# Altium schematic symbol library Schematic Lib.SchLib: 28 symbols
Pins are listed as number, name and electrical type; pins without a type are passive.

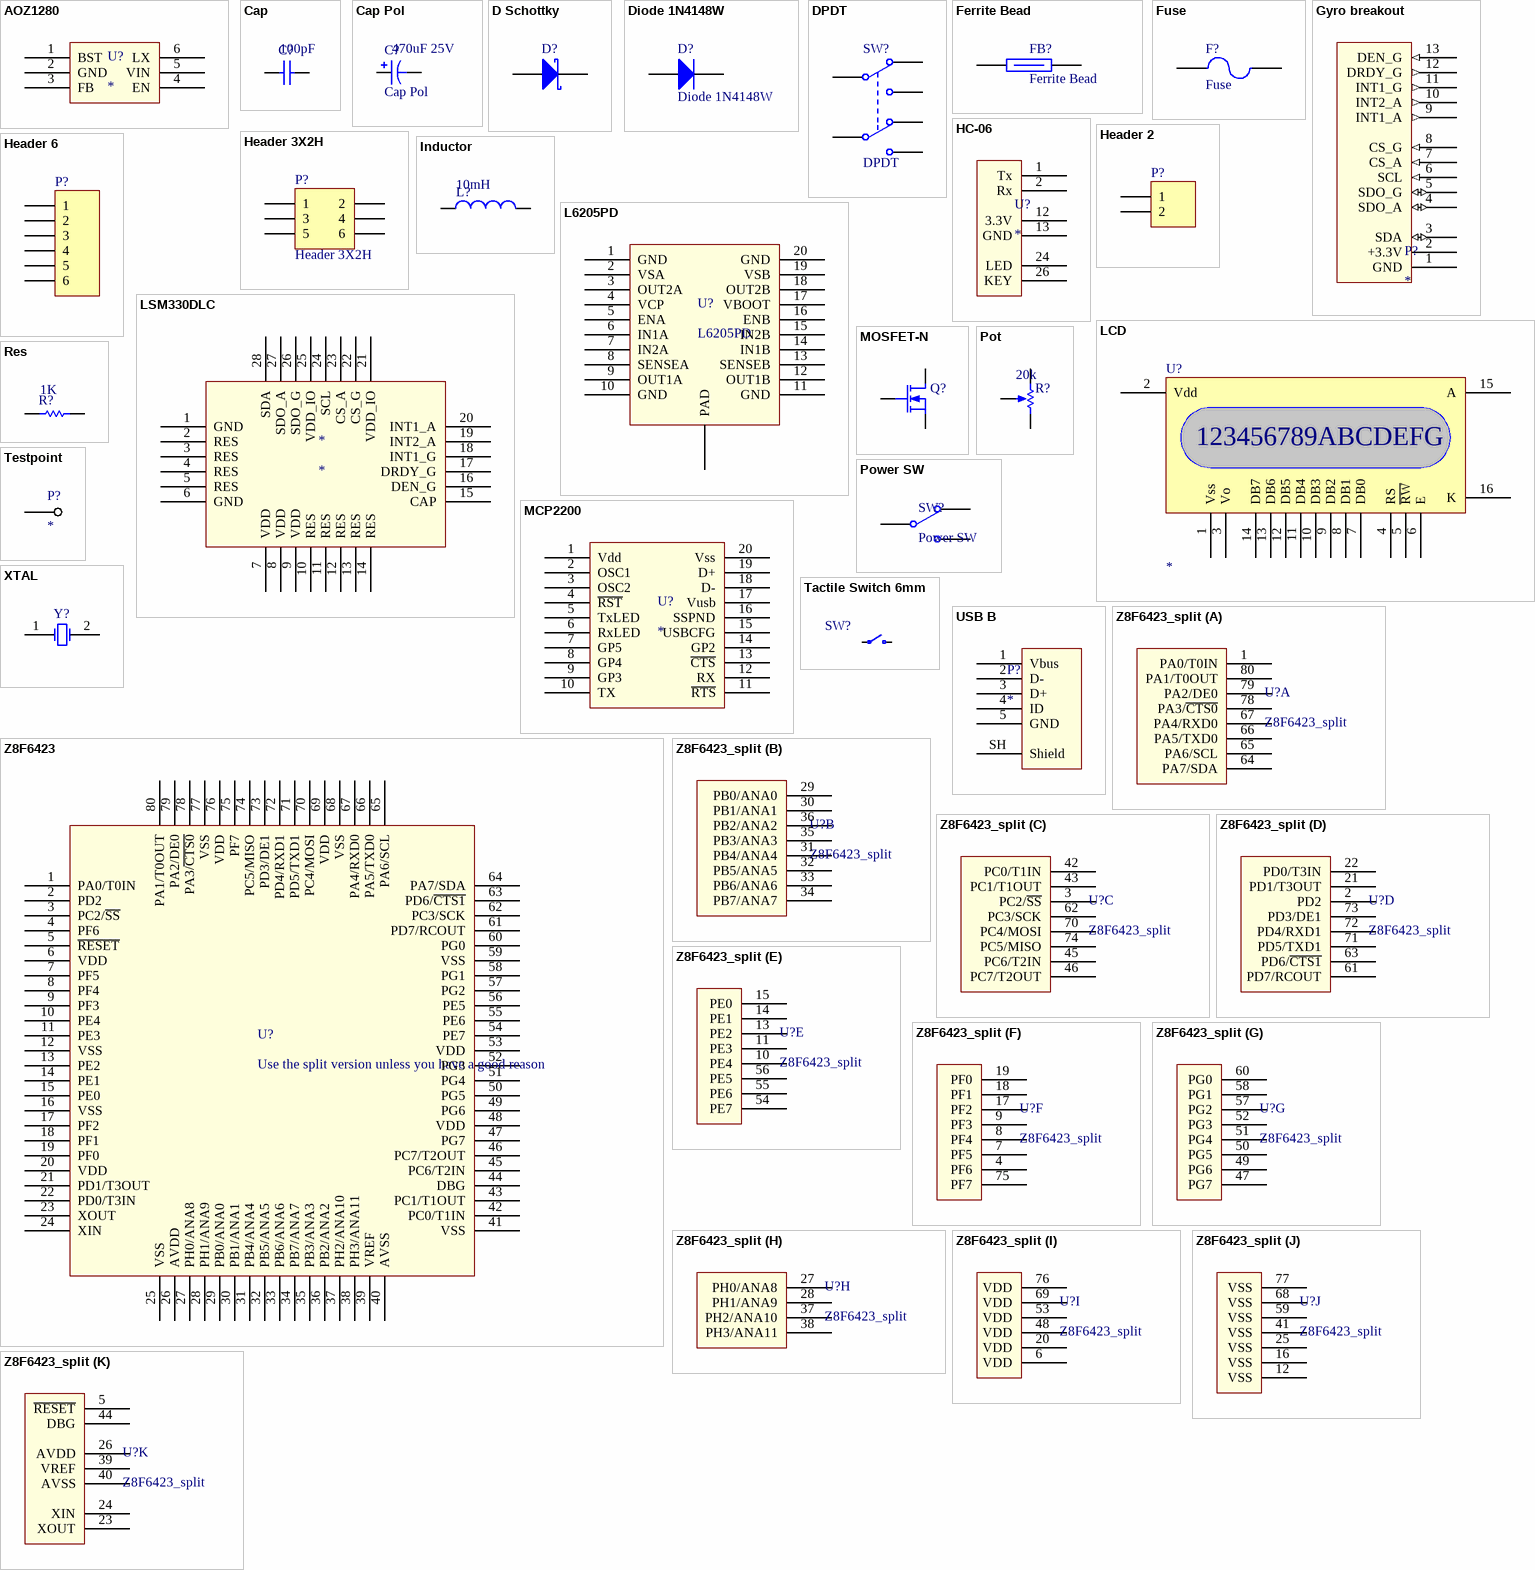
[diagram p0: symbols AOZ1280 to Z8F6423_split]

## AOZ1280
designator U?
footprint SOT23-6 (SOT23, 6-Leads, Body 2.9x1.6mm, Pitch 0.95mm, Lead Span 2.8mm, Ample)
pins: 1 BST, 2 GND, 3 FB, 4 EN, 5 VIN, 6 LX

## Cap
designator C?  value 100pF  (hidden comment: Cap)
Capacitor; Published: 8-Jun-2000; LatestRevisionDate: 17-Jul-2002; LatestRevisionNote: Re-released for DXP Platform.; PackageReference: RAD-0.3; Publisher: Altium Limited; PackageDescription: Radial Cap, Thru-Hole; 2 Leads; 0.3 in Pin Spacing
footprint CAPC2012L-3D (Chip Capacitor, Body 2.0x1.3mm, IPC High Density)
footprint CAP3216 (Chip Capacitor, Body 3.2x1.6mm, IPC High Density)
pins: 1, 2

## Cap Pol
designator C?  value 470uF 25V
Polarized Capacitor (Axial); Published: 8-Jun-2000; LatestRevisionDate: 17-Jul-2002; LatestRevisionNote: Re-released for DXP Platform.; PackageReference: POLAR0.8; Publisher: Altium Limited; PackageDescription: Polarized Capacitor; 2 Leads
footprint Capacitor Nichi CL 10x10
pins: 1, 2
1 alternate drawing of the same symbol

## D Schottky
designator D?
Schottky Diode; Published: 8-Jun-2000; LatestRevisionDate: 17-Jul-2002; LatestRevisionNote: Re-released for DXP Platform.; PackageReference: SMB; Publisher: Altium Limited; PackageDescription: DO-214-AA/SMB; 2 C-Bend Leads; Body 5.3 x 3.6 mm, inc. leads (LxW); Code_JEDEC: DO-214-AA
footprint DO-214-AA (DO-214-AA/SMB; 2 C-Bend Leads; Body 5.3 x 3.6 mm, inc. leads (LxW))
pins: 1 A, 2 K

## Diode 1N4148W
designator D?
Published: 8-Jun-2000; LatestRevisionDate: 17-Jul-2002; LatestRevisionNote: Re-released for DXP Platform.; DatasheetVersion: 1997; PackageReference: DO-35; Publisher: Altium Limited; PackageDescription: Diode, Axial; Body 3.8 x 1.9 mm (LxDia. max), Lead Dia. 0.53 mm (max); Code_JEDEC: DO-204-AH; ComponentLink1Description: Manufacturer Link; ComponentLink1URL: http://www.fairchildsemi.com/; ComponentLink2Description: Datasheet; ComponentLink2URL: http://www.fairchildsemi.com/ds/1N%2F1N4148.pdf
footprint SOD-123 (ON-Semi)
pins: 1 A, 2 K

## DPDT
designator SW?
Switch; Published: 24-Mar-1999; LatestRevisionDate: 29-May-2009; LatestRevisionNote: IPC-7351 Footprint Added.; PackageVersion: Mar-2001; PackageReference: SOT23-6; Publisher: Altium Limited; PackageDescription: 6-Pin SOT-23 Package 0.95 mm Pitch, 2.7 mm Lead Span; Code_JEITA: SC-74; Code_IPC: SOT26A-6
footprint MCLSS22 (DPDT small)
pins: 1 NC1, 2 COMMON1, 3 NO1, 4 NC2, 5 COMMON2, 6 NO2

## Ferrite Bead
designator FB?
footprint 0603
pins: 1, 2

## Fuse
designator F?
Published: 8-Jun-2000; LatestRevisionDate: 17-Jul-2002; LatestRevisionNote: Re-released for DXP Platform.; PackageReference: PIN-W2/E2.8; Publisher: Altium Limited; PackageDescription: Thru-Hole; 2 Leads
footprint Fuse Holder
pins: 1, 2

## Gyro breakout
designator P?
LSM330DLC breakout board
footprint Gyro breakout
pins: 1 GND, 2 +3.3V, 3 SDA (io), 4 SDO_A (io), 5 SDO_G (io), 6 SCL (in), 7 CS_A (in), 8 CS_G (in), 9 INT1_A (out), 10 INT2_A (out), 11 INT1_G (out), 12 DRDY_G (out), 13 DEN_G (in)

## HC-06
designator U?
footprint HC-06
pins: 1 Tx, 2 Rx, 12 3.3V, 13 GND, 24 LED, 26 KEY

## Header 2
designator P?
Header, 2-Pin; LatestRevisionDate: 17-Jul-2002; LatestRevisionNote: Re-released for DXP Platform.; Publisher: Altium Limited
footprint HDR1X2 (Connector; Header; 2 Position)
pins: 1, 2

## Header 3X2H
designator P?
Header, 3-Pin, Dual row, Right Angle; LatestRevisionDate: 17-Jul-2002; LatestRevisionNote: Re-released for DXP Platform.; Publisher: Altium Limited
footprint HDR2X3Hmod (Connector; Header; 3x2 Position; Right Angle)
signal-integrity model Connector
pins: 1, 2, 3, 4, 5, 6

## Header 6
designator P?
Header, 6-Pin; LatestRevisionDate: 17-Jul-2002; LatestRevisionNote: Re-released for DXP Platform.; Publisher: Altium Limited
footprint HDR1X6 (Connector; Header; 6 Position)
pins: 1, 2, 3, 4, 5, 6

## Inductor
designator L?  value 10mH
Inductor; Code_IEC: 1005; Published: 8-Jun-2000; LatestRevisionDate: 29-May-2009; LatestRevisionNote: IPC-7351 Footprint Added.; PackageReference: 0402-A; Publisher: Altium Limited; PackageDescription: Chip Inductor; Code_JEITA: 0402
footprint Inductor 5020
pins: 1, 2

## L6205PD
designator U?
footprint PowerSO20 (STMicro PowerSO20)
pins: 1 GND, 2 VSA, 3 OUT2A, 4 VCP, 5 ENA, 6 IN1A, 7 IN2A, 8 SENSEA, 9 OUT1A, 10 GND, 11 GND, 12 OUT1B, 13 SENSEB, 14 IN1B, 15 IN2B, 16 ENB, 17 VBOOT, 18 OUT2B, 19 VSB, 20 GND, PAD

## LCD
designator U?
footprint LCD
pins: 1 Vss, 2 Vdd, 3 Vo, 4 RS, 5 ~{RW}, 6 E, 7 DB0, 8 DB1, 9 DB2, 10 DB3, 11 DB4, 12 DB5, 13 DB6, 14 DB7, 15 A, 16 K
text: 123456789ABCDEFG

## LSM330DLC
designator *
footprint LGA-28-4x5x1.1
pins: 1 GND, 2 RES, 3 RES, 4 RES, 5 RES, 6 GND, 7 VDD, 8 VDD, 9 VDD, 10 RES, 11 RES, 12 RES, 13 RES, 14 RES, 15 CAP, 16 DEN_G, 17 DRDY_G, 18 INT1_G, 19 INT2_A, 20 INT1_A, 21 VDD_IO, 22 CS_G, 23 CS_A, 24 SCL, 25 VDD_IO, 26 SDO_G, 27 SDO_A, 28 SDA

## MCP2200
designator U?
footprint SSOP-SS20_N (SOP, 20-Leads, Body 7.2x5.2mm, Pitch 0.65mm, IPC Medium Density)
pins: 1 Vdd, 2 OSC1, 3 OSC2, 4 ~{RST}, 5 TxLED, 6 RxLED, 7 GP5, 8 GP4, 9 GP3, 10 TX, 11 ~{RTS}, 12 RX, 13 ~{CTS}, 14 GP2, 15 USBCFG, 16 SSPND, 17 Vusb, 18 D-, 19 D+, 20 Vss

## MOSFET-N
designator Q?
N-Channel MOSFET; Published: 8-Jun-2000; LatestRevisionDate: 17-Jul-2002; LatestRevisionNote: Re-released for DXP Platform.; PackageVersion: 1995/1996; PackageReference: E3; Publisher: Altium Limited; PackageDescription: TO, Flat Index; 3 In-Line, Axial Leads; Body Dia. 4.6mm; Lead Dia. 0.5 mm (max)
footprint SOT23
pins: 1 G, 2 S, 3 D

## Pot
designator R?  value 20k
Potentiometer
footprint POT
pins: 1 TOP, 2 BOT, 3 TAP
1 alternate drawing of the same symbol

## Power SW
designator SW?
footprint Power SW
pins: 1 NC1, 2 COMMON1, 3 NO1

## Res
designator R?  value 1K
Resistor 0805; Published: 8-Jun-2000; LatestRevisionDate: 17-Jul-2002; LatestRevisionNote: Re-released for DXP Platform.; PackageReference: AXIAL-0.3; Publisher: Altium Limited; PackageDescription: Axial Device, Thru-Hole; 2 Leads; 0.3 in Pin Spacing
footprint RESC2012N-3D (Chip Resistor, Body 2.0x1.3mm)
pins: 1, 2

## Tactile Switch 6mm
designator SW?  (value not drawn)
footprint Switch 6mm (Switch 6mm, TH)
pins: 1, 2

## Testpoint
designator P?
footprint Testpoint
pins: 1

## USB B
designator P?
footprint USB B
pins: 1 Vbus, 2 D-, 3 D+, 4 ID, 5 GND, SH Shield

## XTAL
designator Y?
Crystal Oscillator; Published: 8-Jun-2000; LatestRevisionDate: 17-Jul-2002; LatestRevisionNote: Re-released for DXP Platform.; PackageReference: R38; Publisher: Altium Limited; PackageDescription: Crystal, Thru-Hole; 2 Leads; Body 3.1 x 8.2 mm (Dia.xH)
footprint HC49US
pins: 1 OSC1, 2 OSC2

## Z8F6423
designator U?, comment Use the split version unless you have a good reason
footprint RQFP80_N (80-Pin Quad Flat Pack Rectangular 0.8 mm Pitch, IPC Medium Density)
pins: 1 PA0/T0IN, 2 PD2, 3 PC2/~{SS}, 4 PF6, 5 ~{RESET}, 6 VDD, 7 PF5, 8 PF4, 9 PF3, 10 PE4, 11 PE3, 12 VSS, 13 PE2, 14 PE1, 15 PE0, 16 VSS, 17 PF2, 18 PF1, 19 PF0, 20 VDD, 21 PD1/T3OUT, 22 PD0/T3IN, 23 XOUT, 24 XIN, 25 VSS, 26 AVDD, 27 PH0/ANA8, 28 PH1/ANA9, 29 PB0/ANA0, 30 PB1/ANA1, 31 PB4/ANA4, 32 PB5/ANA5, 33 PB6/ANA6, 34 PB7/ANA7, 35 PB3/ANA3, 36 PB2/ANA2, 37 PH2/ANA10, 38 PH3/ANA11, 39 VREF, 40 AVSS, 41 VSS, 42 PC0/T1IN, 43 PC1/T1OUT, 44 DBG, 45 PC6/T2IN, 46 PC7/T2OUT, 47 PG7, 48 VDD, 49 PG6, 50 PG5, 51 PG4, 52 PG3, 53 VDD, 54 PE7, 55 PE6, 56 PE5, 57 PG2, 58 PG1, 59 VSS, 60 PG0, 61 PD7/RCOUT, 62 PC3/SCK, 63 PD6/~{CTS1}, 64 PA7/SDA, 65 PA6/SCL, 66 PA5/TXD0, 67 PA4/RXD0, 68 VSS, 69 VDD, 70 PC4/MOSI, 71 PD5/TXD1, 72 PD4/RXD1, 73 PD3/DE1, 74 PC5/MISO, 75 PF7, 76 VDD, 77 VSS, 78 PA3/~{CTS0}, 79 PA2/DE0, 80 PA1/T0OUT

## Z8F6423_split
designator U?
footprint RQFP80_N (80-Pin Quad Flat Pack Rectangular 0.8 mm Pitch, IPC Medium Density)
part A pins: 1 PA0/T0IN, 64 PA7/SDA, 65 PA6/SCL, 66 PA5/TXD0, 67 PA4/RXD0, 78 PA3/~{CTS0}, 79 PA2/DE0, 80 PA1/T0OUT
part B pins: 29 PB0/ANA0, 30 PB1/ANA1, 31 PB4/ANA4, 32 PB5/ANA5, 33 PB6/ANA6, 34 PB7/ANA7, 35 PB3/ANA3, 36 PB2/ANA2
part C pins: 3 PC2/~{SS}, 42 PC0/T1IN, 43 PC1/T1OUT, 45 PC6/T2IN, 46 PC7/T2OUT, 62 PC3/SCK, 70 PC4/MOSI, 74 PC5/MISO
part D pins: 2 PD2, 21 PD1/T3OUT, 22 PD0/T3IN, 61 PD7/RCOUT, 63 PD6/~{CTS1}, 71 PD5/TXD1, 72 PD4/RXD1, 73 PD3/DE1
part E pins: 10 PE4, 11 PE3, 13 PE2, 14 PE1, 15 PE0, 54 PE7, 55 PE6, 56 PE5
part F pins: 4 PF6, 7 PF5, 8 PF4, 9 PF3, 17 PF2, 18 PF1, 19 PF0, 75 PF7
part G pins: 47 PG7, 49 PG6, 50 PG5, 51 PG4, 52 PG3, 57 PG2, 58 PG1, 60 PG0
part H pins: 27 PH0/ANA8, 28 PH1/ANA9, 37 PH2/ANA10, 38 PH3/ANA11
part I pins: 6 VDD, 20 VDD, 48 VDD, 53 VDD, 69 VDD, 76 VDD
part J pins: 12 VSS, 16 VSS, 25 VSS, 41 VSS, 59 VSS, 68 VSS, 77 VSS
part K pins: 5 ~{RESET}, 23 XOUT, 24 XIN, 26 AVDD, 39 VREF, 40 AVSS, 44 DBG